# Altium schematic symbol library Interface_LineDriver.SchLib: 16 symbols
Pins are listed as number, name and electrical type; pins without a type are passive.

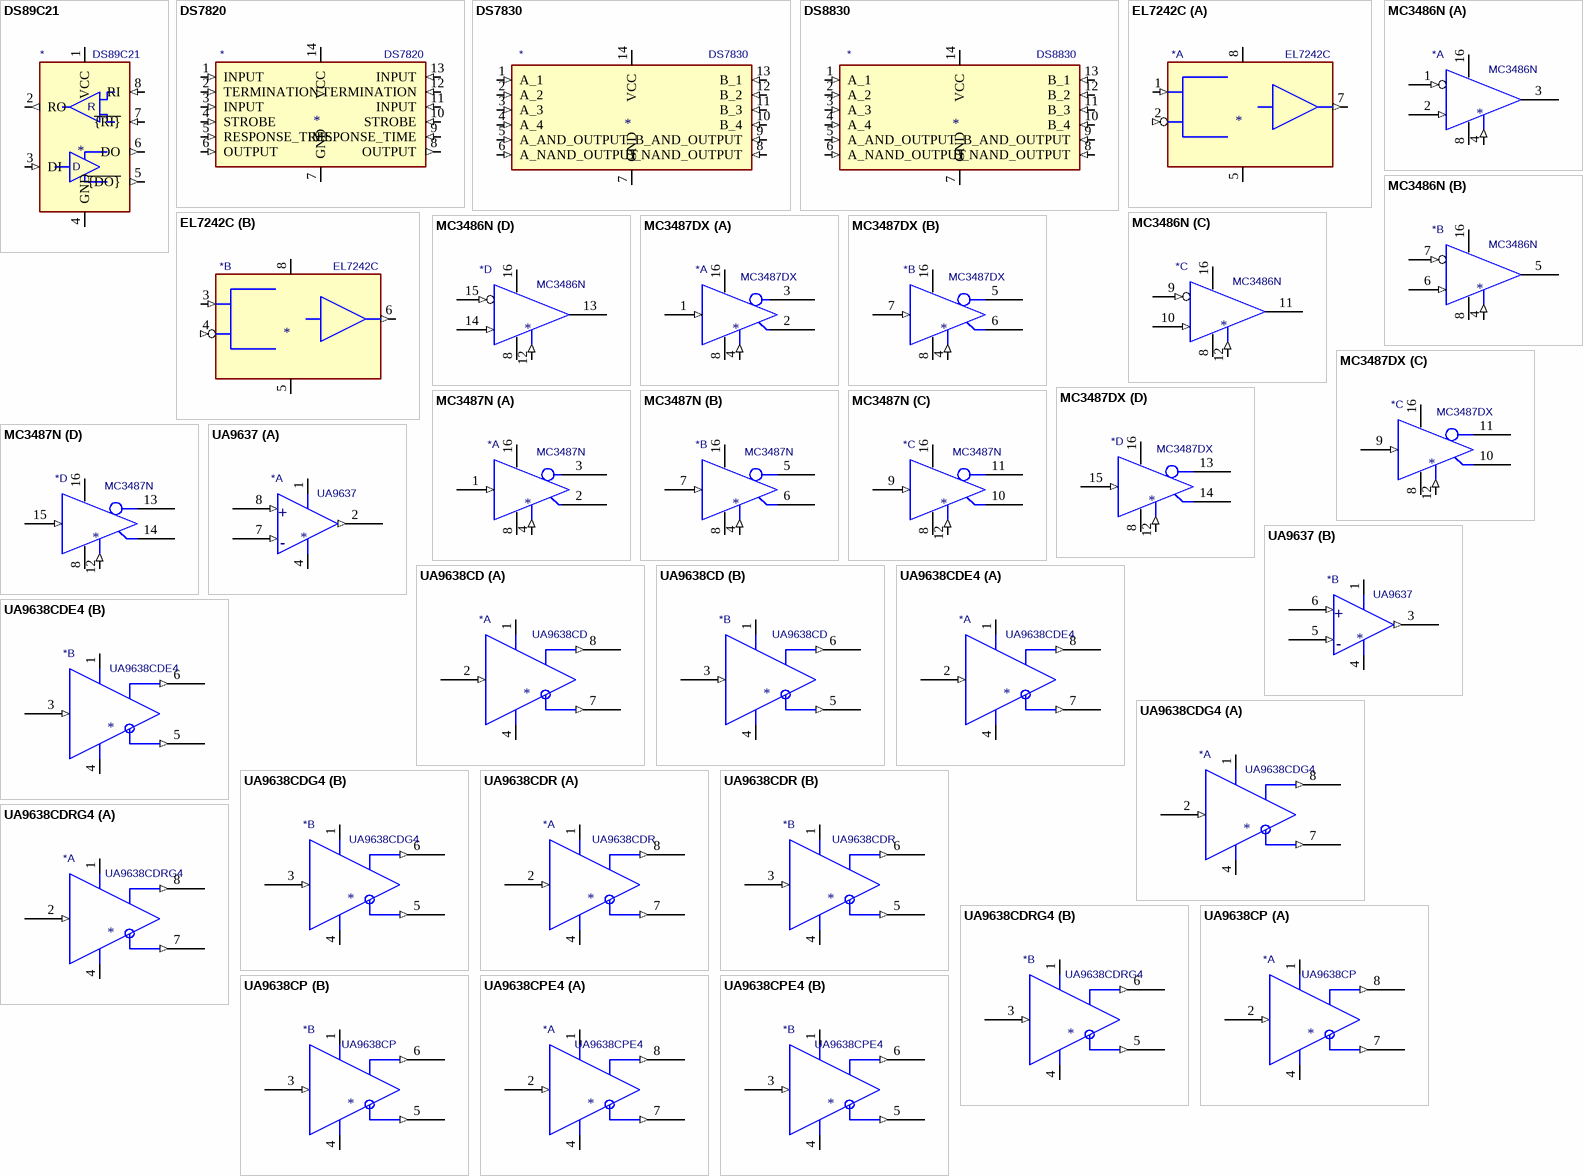
[diagram p0: symbols DS89C21 to UA9638CPE4]

## DS89C21
designator *  value DS89C21
ki_keywords: rs422 tranciever; ki_description: Differential CMOS Line Driver and Receiver Pair, SOIC-8; ki_fp_filters: SOIC*3.9x4.9mm*P1.27mm*; Footprint: Package_SO:SOIC-8_3.9x4.9mm_P1.27mm; Supplier: http://www.ti.com/lit/ds/symlink/ds89c21.pdf
footprint SOIC-8_3.9x4.9mm_P1.27mm
pins: 1 VCC (power), 2 RO (out), 3 DI (in), 4 GND (power), 5 ~{{DO}} (out), 6 DO (out), 7 ~{{RI}} (in), 8 RI (in)
text: R; D

## DS7820
designator *  value DS7820
ki_keywords: Dual line receiver; ki_description: Dual line receiver, VDD +5V, DIP-14; ki_fp_filters: DIP*W7.62mm*; Footprint: Package_DIP:DIP-14_W7.62mm; Supplier: http://pdf1.alldatasheet.com/datasheet-pdf/view/942427/NSC/DS7820.html
footprint DIP-14_W7.62mm
pins: 1 INPUT (in), 2 TERMINATION (in), 3 INPUT (in), 4 STROBE (in), 5 RESPONSE_TIME (in), 6 OUTPUT (in), 7 GND (power), 8 OUTPUT (out), 9 RESPONSE_TIME (in), 10 STROBE (in), 11 INPUT (in), 12 TERMINATION (in), 13 INPUT (in), 14 VCC (power)

## DS7830
designator *  value DS7830
ki_keywords: Dual differential line driver; ki_description: Dual differential line driver and dual four-input NAND or dual four-input AND function, VDD +5V, DIP-14; ki_fp_filters: DIP*W7.62mm*; Footprint: Package_DIP:DIP-14_W7.62mm; Supplier: http://pdf1.alldatasheet.com/datasheet-pdf/view/8473/NSC/DS7830J.html
footprint DIP-14_W7.62mm
pins: 1 A_1 (in), 2 A_2 (in), 3 A_3 (in), 4 A_4 (in), 5 A_AND_OUTPUT (in), 6 A_NAND_OUTPUT (in), 7 GND (power), 8 B_NAND_OUTPUT (in), 9 B_AND_OUTPUT (in), 10 B_4 (in), 11 B_3 (in), 12 B_2 (in), 13 B_1 (in), 14 VCC (power)

## DS8830
designator *  value DS8830
ki_keywords: Dual differential line driver; ki_description: Dual differential line driver and dual four-input NAND or dual four-input AND function, VDD +5V, DIP-14; ki_fp_filters: DIP*W7.62mm*; Footprint: Package_DIP:DIP-14_W7.62mm; Supplier: http://pdf1.alldatasheet.com/datasheet-pdf/view/8473/NSC/DS7830J.html
footprint DIP-14_W7.62mm
pins: 1 A_1 (in), 2 A_2 (in), 3 A_3 (in), 4 A_4 (in), 5 A_AND_OUTPUT (in), 6 A_NAND_OUTPUT (in), 7 GND (power), 8 B_NAND_OUTPUT (in), 9 B_AND_OUTPUT (in), 10 B_4 (in), 11 B_3 (in), 12 B_2 (in), 13 B_1 (in), 14 VCC (power)

## EL7242C
designator *  value EL7242C
ki_keywords: Translateur TTL->VMOS. Double driver VMOS; ki_fp_filters: DIP*W7.62mm*; Footprint: Package_DIP:DIP-8_W7.62mm; Supplier: http://pdf.datasheetcatalog.com/datasheet/elantec/EL7242CN.pdf; ki_description: Translateur TTL->VMOS. Double driver VMOS
footprint DIP-8_W7.62mm
part A pins: 1 IN1 (in), 2 IN (in), 5 GND (power), 7 OUT (out), 8 V+ (power)
part B pins: 3 IN1 (in), 4 IN (in), 5 GND (power), 6 OUT (out), 8 V+ (power)

## MC3486N
designator *  value MC3486N
ki_keywords: Quadruple differential line receiver; ki_description: Quadruple differential line receiver, SOIC-16; ki_fp_filters: DIP*W7.62mm*; Footprint: Package_DIP:DIP-14_W7.62mm; Supplier: http://www.ti.com/lit/ds/symlink/mc3486.pdf
footprint DIP-14_W7.62mm
part A pins: 1 E- (in), 2 E+ (in), 3 OUT (hiz), 4 ENABLE (in), 8 GND (power), 16 VCC (power)
part B pins: 4 ENABLE (in), 5 OUT (hiz), 6 E+ (in), 7 E- (in), 8 GND (power), 16 VCC (power)
part C pins: 8 GND (power), 9 E- (in), 10 E+ (in), 11 OUT (hiz), 12 ENABLE (in), 16 VCC (power)
part D pins: 8 GND (power), 12 ENABLE (in), 13 OUT (hiz), 14 E+ (in), 15 E- (in), 16 VCC (power)

## MC3487DX
designator *  value MC3487DX
ki_keywords: Four independent differential line drivers; ki_description: Four independent differential line drivers, SOIC-16; ki_fp_filters: SOIC*3.9x9.9mm*P1.27mm*; Footprint: Package_SO:SOIC-16_3.9x9.9mm_P1.27mm; Supplier: http://www.ti.com/lit/ds/symlink/mc3487.pdf
footprint SOIC-16_3.9x9.9mm_P1.27mm
part A pins: 1 INPUT (in), 2 OUT+ (hiz), 3 OUT- (hiz), 4 ENABLE (in), 8 GND (power), 16 VCC (power)
part B pins: 4 ENABLE (in), 5 OUT- (hiz), 6 OUT+ (hiz), 7 INPUT (in), 8 GND (power), 16 VCC (power)
part C pins: 8 GND (power), 9 INPUT (in), 10 OUT+ (hiz), 11 OUT- (hiz), 12 ENABLE (in), 16 VCC (power)
part D pins: 8 GND (power), 12 ENABLE (in), 13 OUT- (hiz), 14 OUT+ (hiz), 15 INPUT (in), 16 VCC (power)

## MC3487N
designator *  value MC3487N
ki_keywords: Four independent differential line drivers; ki_description: Four independent differential line drivers, DIP-16; ki_fp_filters: DIP*W7.62mm*; Footprint: Package_DIP:DIP-16_W7.62mm; Supplier: http://www.ti.com/lit/ds/symlink/mc3487.pdf
footprint DIP-16_W7.62mm
part A pins: 1 INPUT (in), 2 OUT+ (hiz), 3 OUT- (hiz), 4 ENABLE (in), 8 GND (power), 16 VCC (power)
part B pins: 4 ENABLE (in), 5 OUT- (hiz), 6 OUT+ (hiz), 7 INPUT (in), 8 GND (power), 16 VCC (power)
part C pins: 8 GND (power), 9 INPUT (in), 10 OUT+ (hiz), 11 OUT- (hiz), 12 ENABLE (in), 16 VCC (power)
part D pins: 8 GND (power), 12 ENABLE (in), 13 OUT- (hiz), 14 OUT+ (hiz), 15 INPUT (in), 16 VCC (power)

## UA9637
designator *  value UA9637
ki_keywords: Dual differential line receiver; ki_description: Dual differential line receiver, DIP-8; ki_fp_filters: DIP*W7.62mm*; Footprint: Package_DIP:DIP-8_W7.62mm; Supplier: http://pdf.datasheetcatalog.com/datasheets2/28/284473_1.pdf
footprint DIP-8_W7.62mm
part A pins: 1 VCC (power), 2 OUT (out), 4 GND (power), 7 IN- (in), 8 IN+ (in)
part B pins: 1 VCC (power), 3 OUT (out), 4 GND (power), 5 IN- (in), 6 IN+ (in)
part A text: +; -
part B text: +; -

## UA9638CD
designator *  value UA9638CD
ki_keywords: Dual high-speed differential line driver; ki_description: Dual high-speed differential line driver, SOIC-8; ki_fp_filters: SOIC*3.9x4.9mm*P1.27mm*; Footprint: Package_SO:SOIC-8_3.9x4.9mm_P1.27mm; Supplier: http://www.ti.com/lit/ds/symlink/ua9638.pdf
footprint SOIC-8_3.9x4.9mm_P1.27mm
part A pins: 1 VCC (power), 2 IN (in), 4 GND (power), 7 OUTA (out), 8 OUTB (out)
part B pins: 1 VCC (power), 3 IN (in), 4 GND (power), 5 OUTA (out), 6 OUTB (out)

## UA9638CDE4
designator *  value UA9638CDE4
ki_keywords: Dual high-speed differential line driver; ki_description: Dual high-speed differential line driver, SOIC-8; ki_fp_filters: SOIC*3.9x4.9mm*P1.27mm*; Footprint: Package_SO:SOIC-8_3.9x4.9mm_P1.27mm; Supplier: http://www.ti.com/lit/ds/symlink/ua9638.pdf
footprint SOIC-8_3.9x4.9mm_P1.27mm
part A pins: 1 VCC (power), 2 IN (in), 4 GND (power), 7 OUTA (out), 8 OUTB (out)
part B pins: 1 VCC (power), 3 IN (in), 4 GND (power), 5 OUTA (out), 6 OUTB (out)

## UA9638CDG4
designator *  value UA9638CDG4
ki_keywords: Dual high-speed differential line driver; ki_description: Dual high-speed differential line driver, SOIC-8; ki_fp_filters: SOIC*3.9x4.9mm*P1.27mm*; Footprint: Package_SO:SOIC-8_3.9x4.9mm_P1.27mm; Supplier: http://www.ti.com/lit/ds/symlink/ua9638.pdf
footprint SOIC-8_3.9x4.9mm_P1.27mm
part A pins: 1 VCC (power), 2 IN (in), 4 GND (power), 7 OUTA (out), 8 OUTB (out)
part B pins: 1 VCC (power), 3 IN (in), 4 GND (power), 5 OUTA (out), 6 OUTB (out)

## UA9638CDR
designator *  value UA9638CDR
ki_keywords: Dual high-speed differential line driver; ki_description: Dual high-speed differential line driver, SOIC-8; ki_fp_filters: SOIC*3.9x4.9mm*P1.27mm*; Footprint: Package_SO:SOIC-8_3.9x4.9mm_P1.27mm; Supplier: http://www.ti.com/lit/ds/symlink/ua9638.pdf
footprint SOIC-8_3.9x4.9mm_P1.27mm
part A pins: 1 VCC (power), 2 IN (in), 4 GND (power), 7 OUTA (out), 8 OUTB (out)
part B pins: 1 VCC (power), 3 IN (in), 4 GND (power), 5 OUTA (out), 6 OUTB (out)

## UA9638CDRG4
designator *  value UA9638CDRG4
ki_keywords: Dual high-speed differential line driver; ki_description: Dual high-speed differential line driver, SOIC-8; ki_fp_filters: SOIC*3.9x4.9mm*P1.27mm*; Footprint: Package_SO:SOIC-8_3.9x4.9mm_P1.27mm; Supplier: http://www.ti.com/lit/ds/symlink/ua9638.pdf
footprint SOIC-8_3.9x4.9mm_P1.27mm
part A pins: 1 VCC (power), 2 IN (in), 4 GND (power), 7 OUTA (out), 8 OUTB (out)
part B pins: 1 VCC (power), 3 IN (in), 4 GND (power), 5 OUTA (out), 6 OUTB (out)

## UA9638CP
designator *  value UA9638CP
ki_keywords: Dual high-speed differential line driver; ki_description: Dual high-speed differential line driver, DIP-8; ki_fp_filters: DIP*W7.62mm*; Footprint: Package_DIP:DIP-8_W7.62mm; Supplier: http://www.ti.com/lit/ds/symlink/ua9638.pdf
footprint DIP-8_W7.62mm
part A pins: 1 VCC (power), 2 IN (in), 4 GND (power), 7 OUTA (out), 8 OUTB (out)
part B pins: 1 VCC (power), 3 IN (in), 4 GND (power), 5 OUTA (out), 6 OUTB (out)

## UA9638CPE4
designator *  value UA9638CPE4
ki_keywords: Dual high-speed differential line driver; ki_description: Dual high-speed differential line driver, DIP-8; ki_fp_filters: DIP*W7.62mm*; Footprint: Package_DIP:DIP-8_W7.62mm; Supplier: http://www.ti.com/lit/ds/symlink/ua9638.pdf
footprint DIP-8_W7.62mm
part A pins: 1 VCC (power), 2 IN (in), 4 GND (power), 7 OUTA (out), 8 OUTB (out)
part B pins: 1 VCC (power), 3 IN (in), 4 GND (power), 5 OUTA (out), 6 OUTB (out)